# EAGLE library part NC7SZ157 (library fairchild-semi)
Multiplexer 1 x 2:1 Single Supply
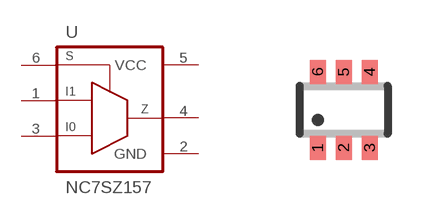
[diagram p6: symbol with the pads of SC70-6; footprint SC70-6]

Designator prefix U

## NC7SZ157P6X  [SC70-6]
1  I1  in
2  GND  pwr
3  I0  in
4  Z  out
5  VCC  pwr
6  S  in

## Footprint SC70-6 (pad centres in mm)
SC-70 Package - Fairchild
smd 0.4 x 0.6: 1 -0.65,-0.95; 2 0,-0.95; 3 0.65,-0.95; 4 0.65,0.95; 5 0,0.95; 6 -0.65,0.95